# Altium schematic symbol library SparkFun-Electromechanical.SCHLIB: 11 symbols
Pins are listed as number, name and electrical type; pins without a type are passive.

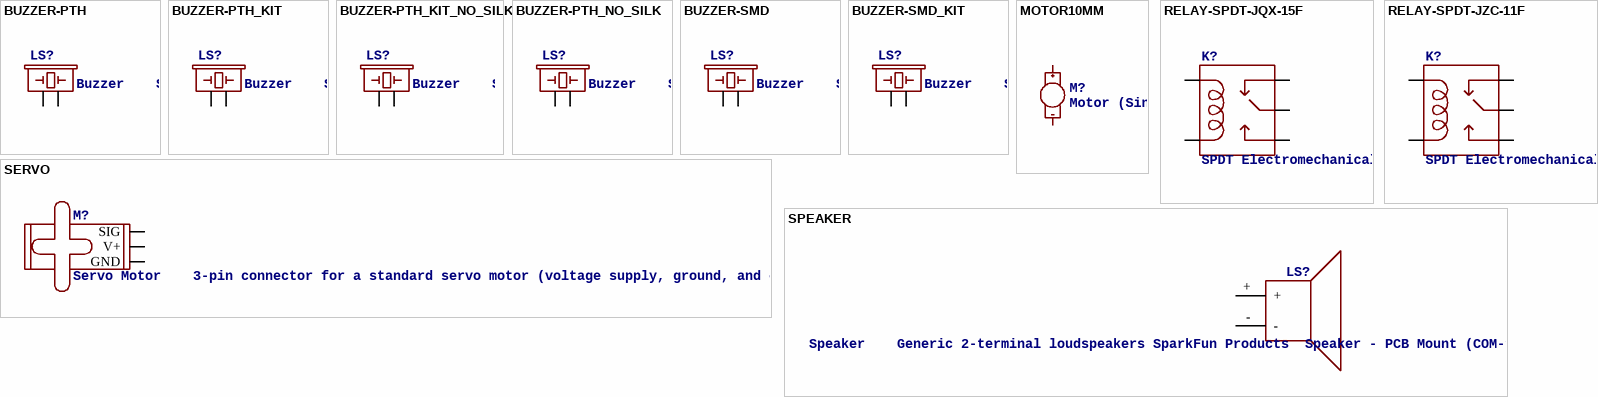
[diagram p0: symbols BUZZER-PTH to SPEAKER]

## BUZZER-PTH
designator LS?, comment Buzzer    Small round buzzers that operate around the audible 2kHz range. You can use these as speakers to create simple music or user interfaces.   Variant Overview:  PTH -  Mini Speaker - PC Mount 12mm 2.048kHz  PTH_KIT -  Mini Speaker - PC Mount 12mm 2.048kHz   KIT simplifies soldering by adding stop mask to one side of the pads.     PTH_NO_SILK -  Mini Speaker - PC Mount 12mm 2.048kHz   No silkscreen indicator of buzzer outline.     PTH_KIT_NO_SILK -  Mini Speaker - PC Mount 12mm 2.048kHz   KIT package w/o silkscreen     SMD -  Buzzer Audio Magnetic (CCV-084B16)   SMD buzzer used on, e.g. the LilyPad Buzzer and RFID USB Reader.  SMD_KIT -  Buzzer Audio Magnetic (CCV-084B16)  SMD Buzzer with elongated pins to make soldering easier. Used on the SparkFun Simon Says - Surface Mount Soldering Kit.
PROD_ID: COMP-08253; SF_SKU: COM-07950
footprint BUZZER-12MM
pins: + 1, - 2

## BUZZER-PTH_KIT
designator LS?, comment Buzzer    Small round buzzers that operate around the audible 2kHz range. You can use these as speakers to create simple music or user interfaces.   Variant Overview:  PTH -  Mini Speaker - PC Mount 12mm 2.048kHz  PTH_KIT -  Mini Speaker - PC Mount 12mm 2.048kHz   KIT simplifies soldering by adding stop mask to one side of the pads.     PTH_NO_SILK -  Mini Speaker - PC Mount 12mm 2.048kHz   No silkscreen indicator of buzzer outline.     PTH_KIT_NO_SILK -  Mini Speaker - PC Mount 12mm 2.048kHz   KIT package w/o silkscreen     SMD -  Buzzer Audio Magnetic (CCV-084B16)   SMD buzzer used on, e.g. the LilyPad Buzzer and RFID USB Reader.  SMD_KIT -  Buzzer Audio Magnetic (CCV-084B16)  SMD Buzzer with elongated pins to make soldering easier. Used on the SparkFun Simon Says - Surface Mount Soldering Kit.
PROD_ID: COMP-08253; SF_SKU: COM-07950
footprint BUZZER-12MM-KIT
pins: + 1, - 2

## BUZZER-PTH_KIT_NO_SILK
designator LS?, comment Buzzer    Small round buzzers that operate around the audible 2kHz range. You can use these as speakers to create simple music or user interfaces.   Variant Overview:  PTH -  Mini Speaker - PC Mount 12mm 2.048kHz  PTH_KIT -  Mini Speaker - PC Mount 12mm 2.048kHz   KIT simplifies soldering by adding stop mask to one side of the pads.     PTH_NO_SILK -  Mini Speaker - PC Mount 12mm 2.048kHz   No silkscreen indicator of buzzer outline.     PTH_KIT_NO_SILK -  Mini Speaker - PC Mount 12mm 2.048kHz   KIT package w/o silkscreen     SMD -  Buzzer Audio Magnetic (CCV-084B16)   SMD buzzer used on, e.g. the LilyPad Buzzer and RFID USB Reader.  SMD_KIT -  Buzzer Audio Magnetic (CCV-084B16)  SMD Buzzer with elongated pins to make soldering easier. Used on the SparkFun Simon Says - Surface Mount Soldering Kit.
PROD_ID: COMP-08253; SF_SKU: COM-07950
footprint BUZZER-12MM-NS-KIT
pins: + 1, - 2

## BUZZER-PTH_NO_SILK
designator LS?, comment Buzzer    Small round buzzers that operate around the audible 2kHz range. You can use these as speakers to create simple music or user interfaces.   Variant Overview:  PTH -  Mini Speaker - PC Mount 12mm 2.048kHz  PTH_KIT -  Mini Speaker - PC Mount 12mm 2.048kHz   KIT simplifies soldering by adding stop mask to one side of the pads.     PTH_NO_SILK -  Mini Speaker - PC Mount 12mm 2.048kHz   No silkscreen indicator of buzzer outline.     PTH_KIT_NO_SILK -  Mini Speaker - PC Mount 12mm 2.048kHz   KIT package w/o silkscreen     SMD -  Buzzer Audio Magnetic (CCV-084B16)   SMD buzzer used on, e.g. the LilyPad Buzzer and RFID USB Reader.  SMD_KIT -  Buzzer Audio Magnetic (CCV-084B16)  SMD Buzzer with elongated pins to make soldering easier. Used on the SparkFun Simon Says - Surface Mount Soldering Kit.
PROD_ID: COMP-08253; SF_SKU: COM-07950
footprint BUZZER-12MM-NS
pins: + 1, - 2

## BUZZER-SMD
designator LS?, comment Buzzer    Small round buzzers that operate around the audible 2kHz range. You can use these as speakers to create simple music or user interfaces.   Variant Overview:  PTH -  Mini Speaker - PC Mount 12mm 2.048kHz  PTH_KIT -  Mini Speaker - PC Mount 12mm 2.048kHz   KIT simplifies soldering by adding stop mask to one side of the pads.     PTH_NO_SILK -  Mini Speaker - PC Mount 12mm 2.048kHz   No silkscreen indicator of buzzer outline.     PTH_KIT_NO_SILK -  Mini Speaker - PC Mount 12mm 2.048kHz   KIT package w/o silkscreen     SMD -  Buzzer Audio Magnetic (CCV-084B16)   SMD buzzer used on, e.g. the LilyPad Buzzer and RFID USB Reader.  SMD_KIT -  Buzzer Audio Magnetic (CCV-084B16)  SMD Buzzer with elongated pins to make soldering easier. Used on the SparkFun Simon Says - Surface Mount Soldering Kit.
PROD_ID: COMP-08568
footprint BUZZER-CCV
pins: + 1, - 2

## BUZZER-SMD_KIT
designator LS?, comment Buzzer    Small round buzzers that operate around the audible 2kHz range. You can use these as speakers to create simple music or user interfaces.   Variant Overview:  PTH -  Mini Speaker - PC Mount 12mm 2.048kHz  PTH_KIT -  Mini Speaker - PC Mount 12mm 2.048kHz   KIT simplifies soldering by adding stop mask to one side of the pads.     PTH_NO_SILK -  Mini Speaker - PC Mount 12mm 2.048kHz   No silkscreen indicator of buzzer outline.     PTH_KIT_NO_SILK -  Mini Speaker - PC Mount 12mm 2.048kHz   KIT package w/o silkscreen     SMD -  Buzzer Audio Magnetic (CCV-084B16)   SMD buzzer used on, e.g. the LilyPad Buzzer and RFID USB Reader.  SMD_KIT -  Buzzer Audio Magnetic (CCV-084B16)  SMD Buzzer with elongated pins to make soldering easier. Used on the SparkFun Simon Says - Surface Mount Soldering Kit.
PROD_ID: COMP-08568
footprint BUZZER-CCV-KIT
pins: + 1, - 2

## MOTOR10MM
designator M?, comment Motor (Single-Phase)    Two-terminal, single-phase motors. SparkFun Products  Vibration Motor (ROB-08449)  Physical dimension and wire connections for this powerful vibration motor. Motor has a self adhesive backing.
PROD_ID: COMP-08572; SF_SKU: ROB-08449
footprint VIBE-MOTOR-10MM
pins: +, -

## RELAY-SPDT-JQX-15F
designator K?, comment SPDT Electromechanical Relay    Single-pole, double-throw sealed relays. When current is applied to the coil, it throws a simple changeover switch, terminating the connection from the NC contact to ground and closing the NO contact. Use them to switch high voltage/high current devices. SparkFun Products  JQX-15F: Relay SPDT Sealed - 20A (COM-10924)  JZC-11F: Relay SPDT Sealed (COM-00100)
PROD_ID: COMP-10736; SF_SKU: COM-10924
footprint RELAY-T90
pins: COIL1, COIL2, MAIN, NC, NO

## RELAY-SPDT-JZC-11F
designator K?, comment SPDT Electromechanical Relay    Single-pole, double-throw sealed relays. When current is applied to the coil, it throws a simple changeover switch, terminating the connection from the NC contact to ground and closing the NO contact. Use them to switch high voltage/high current devices. SparkFun Products  JQX-15F: Relay SPDT Sealed - 20A (COM-10924)  JZC-11F: Relay SPDT Sealed (COM-00100)
PROD_ID: COMP-09533; SF_SKU: COM-00100
footprint RELAY-JZC
pins: 1 COIL2, 2 NC, 3 NO, 4 MAIN, 5 COIL1

## SERVO
designator M?, comment Servo Motor    3-pin connector for a standard servo motor (voltage supply, ground, and control signal.) SparkFun Products  Servo - Generic (Sub-Micro Size) (ROB-09065)  Servo - Generic High Torque Continuous Rotation (Standard Size) (ROB-09347)  Servo - Generic High Torque (Standard Size) (ROB-11965)
footprint 1X03
pins: 1 SIG, 2 V+, 3 GND

## SPEAKER
designator LS?, comment Speaker    Generic 2-terminal loudspeakers SparkFun Products  Speaker - PCB Mount (COM-11089)
PROD_ID: COMP-11789; SF_SKU: COM-11089
footprint PCB_MOUNT_SPEAKER
pins: +, -